# Altium footprint library LED3mm_P2.54_G.PcbLib: 1 footprints
Each footprint in its own frame and in the unit in brackets; x right, y up, seen from the top. Pads: shape width x height; smd on the part's side, far side on the other; paste and mask are expansions set on the pad; w line width, h text height; cw(c..) or ccw(c..) is an arc to the next point about the centre after c.
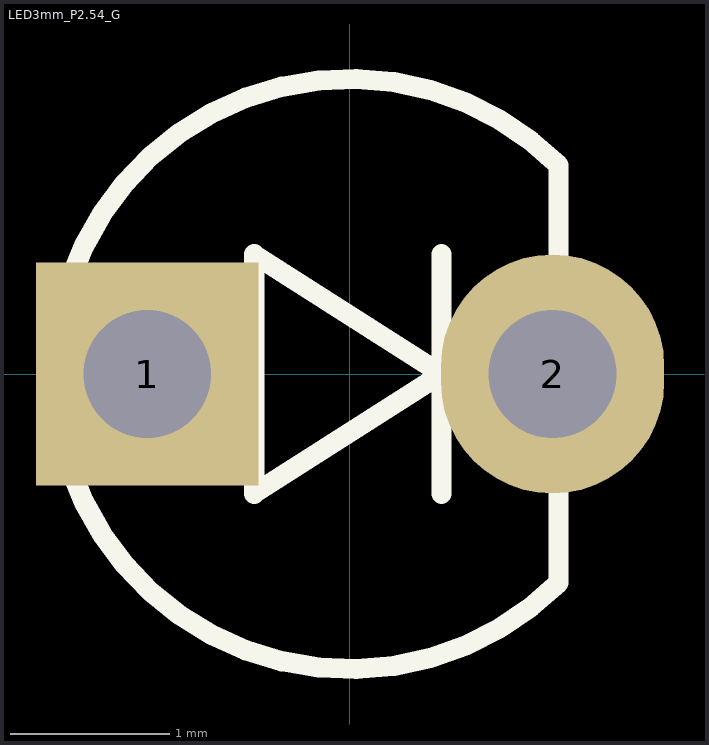
[diagram p0: the footprint, top view; thin cyan lines are the x and y axes]

## LED3mm_P2.54_G [mm]
height 4
pads (2):
  rect 1.397x1.397 hole 0.8: 1(-1.27,0)
  oval 1.4x1.5 hole 0.8: 2(1.27,0)
Top Overlay:
  lines w0.127: 0.574,-0.75 0.574,0.75 ; -0.6,-0.75 -0.6,0.75 0.574,0 -0.6,-0.75 ; 1.308,-1.308 cw(c0,0) 1.308,1.308 1.308,-1.308
3D body "LED D3 - Green_cutted.step": height 5.3, standoff -5.1, extent -1.95,-1.947 1.62,1.947